# Altium footprint library Custom.PcbLib: 446 footprints (part 21 of 28)
Each footprint in its own frame and in the unit in brackets; x right, y up, seen from the top. Pads: shape width x height; smd on the part's side, far side on the other; paste and mask are expansions set on the pad; w line width, h text height; cw(c..) or ccw(c..) is an arc to the next point about the centre after c.
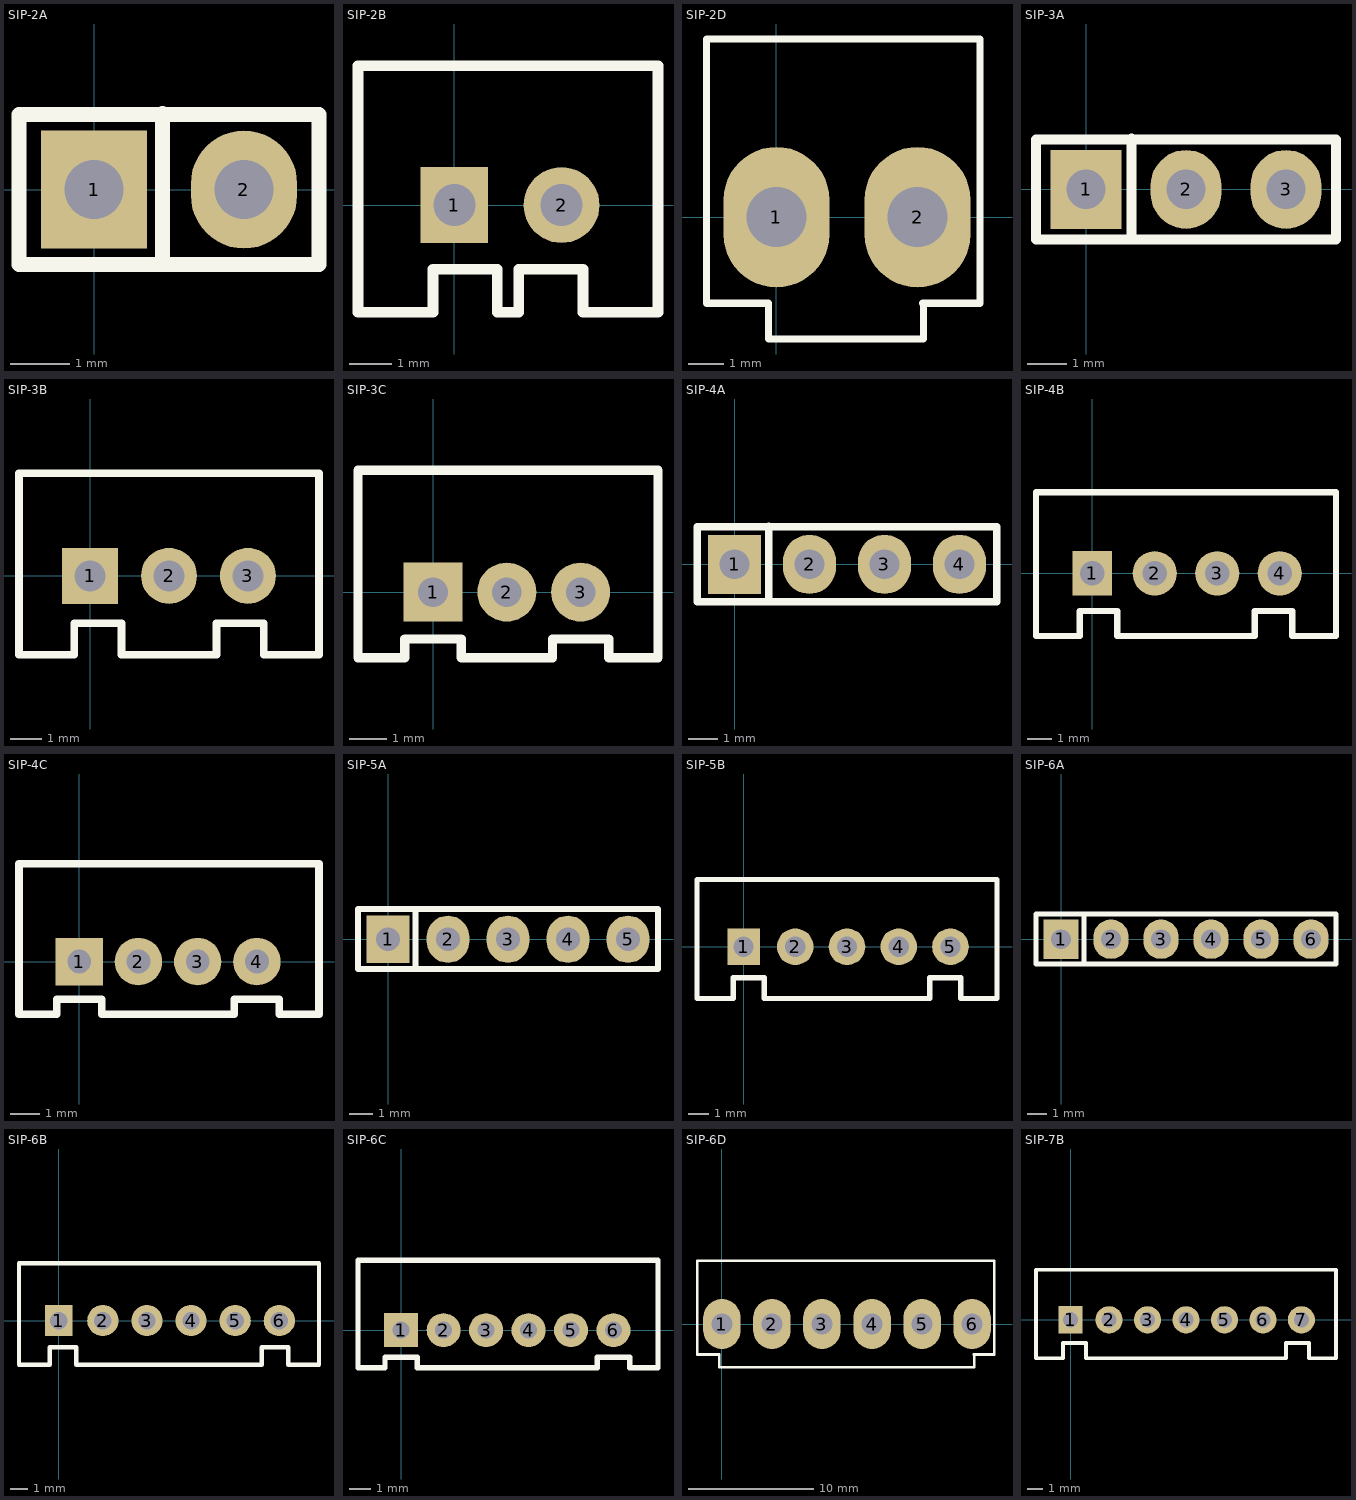
[diagram p20: the footprints below, top view; thin cyan lines are the x and y axes]

## SIP-2A [mm]
pads (2):
  rect 1.8x2 hole 1: 1(0,0)
  oval 1.8x2 hole 1: 2(2.54,0)
Top Overlay:
  lines w0.254: 1.16,-1.25 1.16,1.29 ; -1.27,-1.27 -1.27,1.27 3.81,1.27 3.81,-1.27 -1.27,-1.27

## SIP-2B [mm]
pads (2):
  rect 1.6x1.8 hole 1: 1(0,0)
  round 1.8 hole 1: 2(2.54,0)
Top Overlay:
  lines w0.254: -2.286,-2.54 -2.286,3.302 4.826,3.302 4.826,-2.54 3.048,-2.54 3.048,-1.524 1.524,-1.524 1.524,-2.54 1.016,-2.54 1.016,-1.524 -0.508,-1.524 -0.508,-2.54 -2.286,-2.54

## SIP-2D [mil]
pads (2):
  oval 118x157 hole 67: 1(0,0) 2(157.48,0)
Top Overlay:
  lines w8: -78,199 -78,-96 -9,-96 -9,-136 164.08,-136 164.08,-96 ; -76,199 227.08,199 227.08,-96 163.08,-96

## SIP-3A [mm]
pads (3):
  rect 1.8x2 hole 1: 1(0,0)
  oval 1.8x2 hole 1: 2(2.54,0) 3(5.08,0)
Top Overlay:
  lines w0.254: 1.16,-1.25 1.16,1.29 ; -1.27,-1.27 -1.27,1.27 6.35,1.27 6.35,-1.27 -1.27,-1.27

## SIP-3B [mm]
pads (3):
  rect 1.8x1.8 hole 1: 1(0,0)
  round 1.8 hole 1: 2(2.54,0) 3(5.08,0)
Top Overlay:
  lines w0.254: -2.286,-2.54 -0.508,-2.54 -0.508,-1.524 1.016,-1.524 1.016,-2.54 4.064,-2.54 4.064,-1.524 5.588,-1.524 5.588,-2.54 7.366,-2.54 7.366,3.302 -2.286,3.302 -2.286,-2.54

## SIP-3C [mm]
pads (3):
  rect 1.6x1.6 hole 0.8: 1(0,0)
  round 1.6 hole 0.8: 2(2,0) 3(4,0)
Top Overlay:
  lines w0.254: -2.032,-1.778 -2.032,3.302 6.096,3.302 6.096,-1.778 4.762,-1.778 4.762,-1.27 3.238,-1.27 3.238,-1.778 0.762,-1.778 0.762,-1.27 -0.762,-1.27 -0.762,-1.778 -2.032,-1.778

## SIP-4A [mm]
pads (4):
  rect 1.8x2 hole 1: 1(0,0)
  oval 1.8x2 hole 1: 2(2.54,0) 3(5.08,0) 4(7.62,0)
Top Overlay:
  lines w0.254: 1.16,-1.25 1.16,1.29 ; -1.27,-1.27 8.89,-1.27 8.89,1.27 -1.27,1.27 -1.27,-1.27

## SIP-4B [mm]
pads (4):
  rect 1.6x1.8 hole 1: 1(0,0)
  round 1.8 hole 1: 2(2.54,0) 3(5.08,0) 4(7.62,0)
Top Overlay:
  lines w0.254: -2.286,-2.54 -0.508,-2.54 -0.508,-1.524 1.016,-1.524 1.016,-2.54 6.604,-2.54 6.604,-1.524 8.128,-1.524 8.128,-2.54 9.906,-2.54 9.906,3.302 -2.286,3.302 -2.286,-2.54

## SIP-4C [mm]
pads (4):
  rect 1.6x1.6 hole 0.8: 1(0,0)
  round 1.6 hole 0.8: 2(2,0) 3(4,0) 4(6,0)
Top Overlay:
  lines w0.254: -2.032,-1.778 -2.032,3.302 8.096,3.302 8.096,-1.778 6.762,-1.778 6.762,-1.27 5.238,-1.27 5.238,-1.778 0.762,-1.778 0.762,-1.27 -0.762,-1.27 -0.762,-1.778 -2.032,-1.778

## SIP-5A [mm]
pads (5):
  rect 1.8x2 hole 1: 1(0,0)
  oval 1.8x2 hole 1: 2(2.54,0) 3(5.08,0) 4(7.62,0) 5(10.16,0)
Top Overlay:
  lines w0.254: 1.16,-1.25 1.16,1.29 ; -1.27,-1.27 -1.27,1.27 11.43,1.27 11.43,-1.27 -1.27,-1.27

## SIP-5B [mm]
pads (5):
  rect 1.6x1.8 hole 1: 1(0,0)
  round 1.8 hole 1: 2(2.54,0) 3(5.08,0) 4(7.62,0) 5(10.16,0)
Top Overlay:
  lines w0.254: -2.286,-2.54 -2.286,3.302 12.446,3.302 12.446,-2.54 10.668,-2.54 10.668,-1.524 9.144,-1.524 9.144,-2.54 1.016,-2.54 1.016,-1.524 -0.508,-1.524 -0.508,-2.54 -2.286,-2.54

## SIP-6A [mm]
pads (6):
  rect 1.8x2 hole 1: 1(0,0)
  oval 1.8x2 hole 1: 2(2.54,0) 3(5.08,0) 4(7.62,0) 5(10.16,0) 6(12.7,0)
Top Overlay:
  lines w0.254: 1.16,-1.25 1.16,1.29 ; -1.27,-1.27 13.97,-1.27 13.97,1.27 -1.27,1.27 -1.27,-1.27

## SIP-6B [mm]
pads (6):
  rect 1.6x1.8 hole 1: 1(0,0)
  round 1.8 hole 1: 2(2.54,0) 3(5.08,0) 4(7.62,0) 5(10.16,0) 6(12.7,0)
Top Overlay:
  lines w0.254: -2.286,-2.54 -2.286,3.302 14.986,3.302 14.986,-2.54 13.208,-2.54 13.208,-1.524 11.684,-1.524 11.684,-2.54 1.016,-2.54 1.016,-1.524 -0.508,-1.524 -0.508,-2.54 -2.286,-2.54

## SIP-6C [mm]
pads (6):
  rect 1.6x1.6 hole 0.8: 1(0,0)
  round 1.6 hole 0.8: 2(2,0) 3(4,0) 4(6,0) 5(8,0) 6(10,0)
Top Overlay:
  lines w0.254: 9.22,-1.778 0.762,-1.778 0.762,-1.27 -0.762,-1.27 -0.762,-1.778 -2.032,-1.778 -2.032,3.302 12.09,3.302 ; 9.238,-1.778 9.238,-1.27 10.762,-1.27 10.762,-1.778 12.096,-1.778 12.096,3.302

## SIP-6D [mil]
pads (6):
  oval 118x157 hole 67: 1(0,0) 2(157.48,0) 3(314.96,0) 4(472.44,0) 5(629.92,0) 6(787.4,0)
Top Overlay:
  lines w8: -78,199 -78,-96 -9,-96 -9,-136 794,-136 794,-96 ; -76,199 857,199 857,-96 793,-96

## SIP-7B [mm]
pads (7):
  rect 1.6x1.8 hole 1: 1(0,0)
  round 1.8 hole 1: 2(2.54,0) 3(5.08,0) 4(7.62,0) 5(10.16,0) 6(12.7,0) 7(15.24,0)
Top Overlay:
  lines w0.254: -2.286,-2.54 -2.286,3.302 17.526,3.302 17.526,-2.54 15.748,-2.54 15.748,-1.524 14.224,-1.524 14.224,-2.54 1.016,-2.54 1.016,-1.524 -0.508,-1.524 -0.508,-2.54 -2.286,-2.54